# Altium schematic symbol library Max30205.SchLib: 1 symbol
Pins are listed as number, name and electrical type; pins without a type are passive.

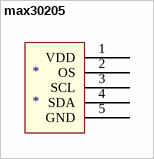
[diagram p0: symbol max30205]

## max30205
designator *
Mã hàng: AM-057; Giá: 178.000
footprint max30205
pins: 1 VDD, 2 OS, 3 SCL, 4 SDA, 5 GND